# EAGLE library part AK4558 (library EurorackModularParts)
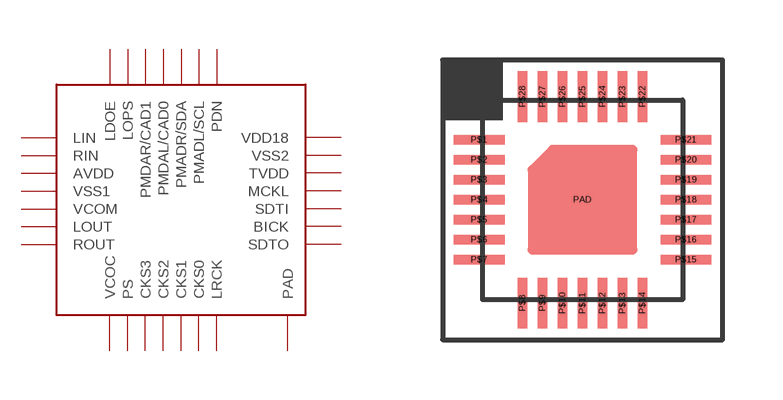
[diagram p9: symbol with the pads of QFN28; footprint QFN28]

Designator prefix -

## AK4558  [QFN28]
P$1  VCOC
P$2  PS
P$3  CKS3
P$4  CKS2
P$5  CKS1
P$6  CKS0
P$7  LRCK
P$8  SDTO
P$9  BICK
P$10  SDTI
P$11  MCKL
P$12  TVDD
P$13  VSS2
P$14  VDD18
P$15  PDN
P$16  PMADL/SCL
P$17  PMADR/SDA
P$18  PMDAL/CAD0
P$19  PMDAR/CAD1
P$20  LOPS
P$21  LDOE
P$22  LIN
P$23  RIN
P$24  AVDD
P$25  VSS1
P$26  VCOM
P$27  LOUT
P$28  ROUT
PAD  PAD

## Footprint QFN28 (pad centres in mm)
smd 1.27 x 0.23: P$1 -2.585,1.5; P$2 -2.585,1; P$3 -2.585,0.5; P$4 -2.585,0; P$5 -2.585,-0.5; P$6 -2.585,-1; P$7 -2.585,-1.5; P$15 2.585,-1.5; P$16 2.585,-1; P$17 2.585,-0.5; P$18 2.585,0; P$19 2.585,0.5; P$20 2.585,1; P$21 2.585,1.5; PAD 0,0
smd 0.23 x 1.27: P$8 -1.5,-2.585; P$9 -1,-2.585; P$10 -0.5,-2.585; P$11 0,-2.585; P$12 0.5,-2.585; P$13 1,-2.585; P$14 1.5,-2.585; P$22 1.5,2.585; P$23 1,2.585; P$24 0.5,2.585; P$25 0,2.585; P$26 -0.5,2.585; P$27 -1,2.585; P$28 -1.5,2.585